# EAGLE library part 66201621022 (library Wire-to-Board (rev18a))
WR-MPC3 3.00mm Male Dual Row Angled Header with Plastic Pegs, 16 Pins=>Code : Con_WTB-MPC3_2_PCB_THT66201621022 <http://katalog.we-online.de/media/thumbs2/eican/thb_Con_WTB-MPC3_2_PCB_THT86220xx21022_pf2.jpg> Details see: http://katalog.we-online.de/en/em/MPC3_3_00_MALE_DUAL_ROW_ANGLED_HEADER_W_PLASTIC_PEGS_6620XX21022 Created 2014-06-06, Karrer Zheng 2014 (C) Würth Elektronik
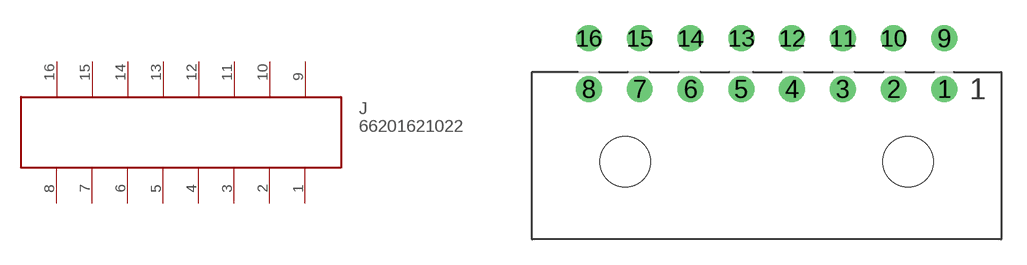
[diagram p374: symbol with the pads of 66201621022; footprint 66201621022]

Designator prefix J

## 66201621022  [66201621022]
1  1
2  2
3  3
4  4
5  5
6  6
7  7
8  8
9  9
10  10
11  11
12  12
13  13
14  14
15  15
16  16

## Footprint 66201621022 (pad centres in mm)
WR-MPC3 3.00mm Male Dual Row Angled Header with Plastic Pegs, 16 Pins
drill 1.02: 1 10.5,4.3; 2 7.5,4.3; 3 4.5,4.3; 4 1.5,4.3; 5 -1.5,4.3; 6 -4.5,4.3; 7 -7.5,4.3; 8 -10.5,4.3; 9 10.5,7.3; 10 7.5,7.3; 11 4.5,7.3; 12 1.5,7.3; 13 -1.5,7.3; 14 -4.5,7.3; 15 -7.5,7.3; 16 -10.5,7.3
hole 3 at 8.35,0
hole 3 at -8.35,0